# Altium schematic symbol library SEMATIK_LIB.SchLib: 632 symbols (part 8 of 21)
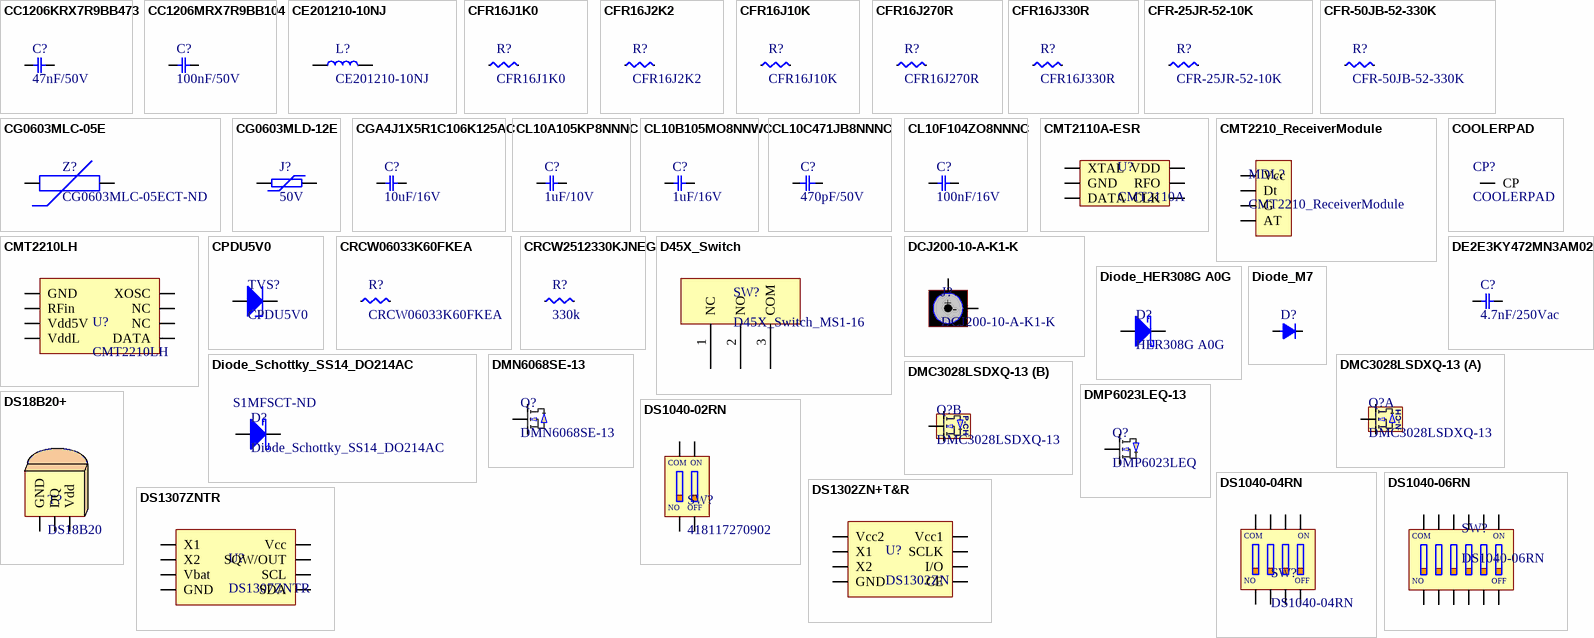
[diagram p23: symbols CC1206KRX7R9BB473 to DS1307ZNTR]

## Diode_HER308G A0G
designator D?, comment HER308G A0G
DIODE GEN PURP 1KV 3A DO201AD; Manufacturer: Taiwan Semiconductor Corporation; Diode Type: Standard; Speed: Fast Recovery =< 500ns, > 200mA (Io); Capacitance @ Vr, F: 35pF @ 4V, 1MHz; Type: Ceramic; Voltage - Max: 24V; Approvals: UL; Supplier 1: Digi-Key; Manufacturer Part Number: HER308G A0G; RoHS: RoHS Compliant; Category: Discrete Semiconductor Products; Stock 1: 2000; Pricing 1: 1=0.6, 10=0.469, 25=0.3952, 100=0.3217, 250=0.2666 (USD); Packaging: Cut Tape (CT); Part Status: Active; Current - Average Rectified (Io): 3A; Mounting Type: Through Hole; Package / Case: DO-201AD, Axial; Supplier Device Package: DO-201AD; Operating Temperature - Junction: -55°C ~ 150°C; ComponentLink1URL: http://www.taiwansemi.com/products/datasheet/HER301G%20SERIES_H15.pdf; ComponentLink1Description: http://www.taiwansemi.com/products/datasheet/HER301G%20SERIES_H15.pdf; Supplier Part Number 1: HER308GA0GCT-ND; Operating Temperature: -20°C ~ 75°C; Ratings: -; Size / Dimension: 0.063" L x 0.032" W (1.60mm x 0.80mm); Height - Seated (Max): -; Thickness (Max): 0.037" (0.95mm); Lead Spacing: -; ComponentLink2URL: https://www.murata.com/~/media/webrenewal/products/thermistor/ptc/prg/bc-e0160j-prg18bbmb1rb-e.ashx?la=en-us; ComponentLink2Description: https://www.murata.com/~/media/webrenewal/products/thermistor/ptc/prg/bc-e0160j-prg18bbmb1rb-e.ashx?la=en-us
pins: 1 Katot, 2 Anot

## Diode_M7
designator D?  (value not drawn)
DIODE GEN PURP 1KV 1A DO214AC; Manufacturer: Comchip Technology; Manufacturer Part Number: CGRA4007-G; Diode Type: Standard; Speed: Standard Recovery >500ns, > 200mA (Io); Supplier 1: Digi-Key; RoHS: RoHS Compliant; Category: Discrete Semiconductor Products; Stock 1: 378932; Pricing 1: 1=0.3, 10=0.27, 25=0.1948, 100=0.1514, 250=0.09516, 500=0.08112, 1000=0.05516, 2500=0.04975 (USD); Packaging: Cut Tape (CT); Part Status: Active; Current - Average Rectified (Io): 1A; Capacitance @ Vr, F: -; Mounting Type: Surface Mount; Package / Case: DO-214AC, SMA; Supplier Device Package: DO-214AC (SMA); Operating Temperature - Junction: -55°C ~ 150°C; Base Part Number: CGRA4007; ComponentLink1URL: http://www.comchiptech.com/cms/UserFiles/CGRA4001-G%20Thru.%20CGRA4007-HF%20RevD.pdf; ComponentLink1Description: http://www.comchiptech.com/cms/UserFiles/CGRA4001-G%20Thru.%20CGRA4007-HF%20RevD.pdf; Supplier Part Number 1: 641-1018-1-ND
footprint DO214AC(SMA)
footprint DO214AC(SMA)+DO41
pins: A Anot, K Katot

## Diode_Schottky_SS14_DO214AC
designator D?  Supplier Part Number 2: S1MFSCT-ND
SS14; Manufacturer: ON Semiconductor / Fairchild; Forward Voltage: 500mV; Peak Non-Repetitive Surge Current: 40A; Element Configuration: Single; Peak Reverse Current: 200uA; Forward Current: 1A; Number of Elements: 1; Max Power Dissipation: 1.1W; Max Repetitive Reverse Voltage (Vrrm): 40V; Polarity: Standard; Reverse Recovery Time: 1.8us; Capacitance: 12pF; Reverse Voltage: 1kV; Recovery Time: 1800ns; Supplier 1: Digi-Key; Manufacturer Part Number: SS14; Stock 1: 148227; Pricing 1: 1=0.43, 10=0.325, 100=0.2027, 500=0.13872, 1000=0.1067 (USD); Mount: Surface Mount; Case/Package: SMA; Number of Pins: 2; Weight: 0.003739oz; Number of Terminals: 2; Min Operating Temperature: -65°C; Max Operating Temperature: 125°C; Packaging: Tape and Reel; Package Quantity: 7500; Max Forward Surge Current (Ifsm): 40A; Average Rectified Current: 1A; Termination: SMD/SMT; Power Dissipation: 1.1W; Voltage Rating (DC): 40V; Current Rating: 1A; Output Current: 1A; Current: 1A; Voltage: 40V; Max Reverse Voltage (DC): 40V; Length: 4.75mm; Height: 2.2mm; Width: 2.95mm; Radiation Hardening: No; REACH SVHC: No SVHC; Lead Free: Lead Free; ComponentLink1URL: http://www.mouser.com/ds/2/149/SS14-197224.pdf?src-supplier=Mouser; ComponentLink1Description: http://www.mouser.com/ds/2/149/SS14-197224.pdf?src-supplier=Mouser; ComponentLink2URL: http://www.jameco.com/Jameco/Products/ProdDS/1089027.pdf?src-supplier=Jameco; ComponentLink2Description: http://www.jameco.com/Jameco/Products/ProdDS/1089027.pdf?src-supplier=Jameco; ComponentLink3URL: https://www.fairchildsemi.com/datasheets/SS/SS19.pdf?src-supplier=Avnet; ComponentLink3Description: https://www.fairchildsemi.com/datasheets/SS/SS19.pdf?src-supplier=Avnet; ComponentLink4URL: https://www.fairchildsemi.com/package-drawings/DO/DO214AC.pdf?src-supplier=Digi-Key; ComponentLink4Description: https://www.fairchildsemi.com/package-drawings/DO/DO214AC.pdf?src-supplier=Digi-Key; ComponentLink5URL: http://www.fairchildsemi.com/ds/SS/SS19.pdf?src-supplier=Avnet+Europe; ComponentLink5Description: http://www.fairchildsemi.com/ds/SS/SS19.pdf?src-supplier=Avnet+Europe; ComponentLink6URL: http://www.farnell.com/datasheets/1880990.pdf?src-supplier=Element14; ComponentLink6Description: http://www.farnell.com/datasheets/1880990.pdf?src-supplier=Element14; ComponentLink7URL: http://www.fairchildsemi.com/ds/SS/SS14.pdf?src-supplier=Future+Electronics; ComponentLink7Description: http://www.fairchildsemi.com/ds/SS/SS14.pdf?src-supplier=Future+Electronics; Supplier Part Number 1: SS14DKR-ND; Supplier 2: Digi-Key; Manufacturer 2: ON Semiconductor / Fairchild; Manufacturer Part Number 2: S1M; Stock 2: 186500; Pricing 2: 1=0,24000, 10=0,19800, 25=0,16560, 100=0,08100, 250=0,07968, 500=0,06752, 1000=0,04692, 2500=0,04361 (USD); RoHS: Yes; Contact Plating: Tin,Matte; Max Surge Current: 40A; ComponentLink8URL: https://datasheet.ciiva.com/27051/1072719-27051364.pdf?src-supplier=Jameco; ComponentLink8Description: https://datasheet.ciiva.com/27051/1072719-27051364.pdf?src-supplier=Jameco; ComponentLink9URL: https://datasheet.ciiva.com/4452/s1m-191340-4452980.pdf?src-supplier=Mouser; ComponentLink9Description: https://datasheet.ciiva.com/4452/s1m-191340-4452980.pdf?src-supplier=Mouser; ComponentLink10URL: https://datasheet.ciiva.com/910/s1a-910496.pdf?src-supplier=Digi-Key; ComponentLink10Description: https://datasheet.ciiva.com/910/s1a-910496.pdf?src-supplier=Digi-Key; ComponentLink11URL: https://datasheet.ciiva.com/8303/s1k-8303577.pdf?src-supplier=Avnet; ComponentLink11Description: https://datasheet.ciiva.com/8303/s1k-8303577.pdf?src-supplier=Avnet; ComponentLink12URL: https://datasheet.ciiva.com/7965/96437-7965306.pdf?src-supplier=Element14; ComponentLink12Description: https://datasheet.ciiva.com/7965/96437-7965306.pdf?src-supplier=Element14; ComponentLink13URL: https://datasheet.ciiva.com/5739/1766308-5739339.pdf?src-supplier=Farnell; ComponentLink13Description: https://datasheet.ciiva.com/5739/1766308-5739339.pdf?src-supplier=Farnell; ComponentLink14URL: https://datasheet.ciiva.com/7965/1766308-7965189.pdf?src-supplier=Element14; ComponentLink14Description: https://datasheet.ciiva.com/7965/1766308-7965189.pdf?src-supplier=Element14; ComponentLink15URL: https://datasheet.ciiva.com/22651/1766308-22651974.pdf?src-supplier=Element14; ComponentLink15Description: https://datasheet.ciiva.com/22651/1766308-22651974.pdf?src-supplier=Element14; ComponentLink16URL: https://datasheet.ciiva.com/7965/1766308-7965307.pdf?src-supplier=Element14; ComponentLink16Description: https://datasheet.ciiva.com/7965/1766308-7965307.pdf?src-supplier=Element14
footprint DO214AC(SMA)
pins: 1 Katot, 2 Anot

## DMC3028LSDXQ-13
designator Q?
MOSFET N/P-CH 30V 5.5A/5.8A 8SO; Manufacturer: Diodes Inc.; Continuous Drain Current (ID): 5.5A; Drain to Source Resistance: 27mΩ; Input Capacitance: 641pF; Max Power Dissipation: 1.2W; Number of Elements: 2; Supplier: Avnet; Supplier Part Number: DMC3028LSDXQ-13; Manufacturer Part Number: DMC3028LSDXQ-13; RoHS: Compliant; Category: MOSFETs; Stock: 52500; Pricing: 2500=0,24402, 5000=0,24278, 10000=0,24153, 15000=0,24029, 20000=0,23904 (USD); Case/Package: SOIC; China RoHS: Compliant; Drain to Source Voltage (Vdss): 30V; Lifecycle Status: Production; Max Operating Temperature: 150°C; Min Breakdown Voltage: 30V; Min Operating Temperature: -55°C; Mounting Technology: Surface Mount; Pins: 8; Number of Terminals: 8; Rds On Max: 27mΩ; REACH SVHC: Yes; ComponentLink1URL: https://datasheet.octopart.com:443/DMC3028LSDXQ-13-Diodes-Inc.-datasheet-151210155.pdf?src-supplier=Future+Electronics; ComponentLink1Description: https://datasheet.octopart.com:443/DMC3028LSDXQ-13-Diodes-Inc.-datasheet-151210155.pdf?src-supplier=Future+Electronics; ComponentLink2URL: https://sigma.octopart.com:443/138895856/technical_drawing/Diodes-Inc.-DMC3028LSDXQ-13.pdf?src-supplier=Diodes+Inc+SCT; ComponentLink2Description: https://sigma.octopart.com:443/138895856/technical_drawing/Diodes-Inc.-DMC3028LSDXQ-13.pdf?src-supplier=Diodes+Inc+SCT
footprint SOP8
part A pins: 1 S1, 2 G1, 7,8 D1
part B pins: 3 S2, 4 G2, 5,6 D2
part A text: N-CH
part B text: P-CH

## DMN6068SE-13
designator Q?
MOSFET N-CH 60V 4.1A SOT223; Manufacturer: Diodes; Number of Elements: 1; Rise Time: 10.8ns; Continuous Drain Current (ID): 5.6A; Gate to Source Voltage (Vgs): 20V; Turn-Off Delay Time: 11.9ns; Turn-On Delay Time: 3.6ns; Fall Time: 8.7ns; Power Dissipation: 3.7W; Element Configuration: Single; Polarity: N-CHANNEL; Rds On Max: 68mR; Input Capacitance: 502pF; Max Power Dissipation: 2W; FET Type: 1 N-Channel; Supplier 1: Digi-Key; Manufacturer Part Number: DMN6068SE-13; RoHS: Yes; Category: MOSFETs; Pricing 1: 1=0,63000, 10=0,53700, 100=0,40130, 500=0,31532, 1000=0,24365, 2000=0,22216 (USD); Mount: Surface Mount; Case/Package: SOT-223; Contact Plating: Tin,Matte; Weight: 0.000282oz; Min Operating Temperature: -55°C; Max Operating Temperature: 150°C; Package Quantity: 4000; Packaging: Cut Tape; Series: -; Drain to Source Voltage (Vdss): 60V; Number of Channels: 1; Drain to Source Breakdown Voltage: 60V; Drain to Source Resistance: 68mR; On-State Resistance: 68mR; Drain-source On Resistance-Max: 68mR; Length: 6.7mm; Width: 3.7mm; Height: 1.65mm; Radiation Hardening: No; Reach SVHC Compliant: Yes; Lead Free: Lead Free; RoHS Compliant: Yes; ComponentLink1URL: https://datasheet.ciiva.com/11176/ds32033-11176546.pdf?src-supplier=Avnet; ComponentLink1Description: https://datasheet.ciiva.com/11176/ds32033-11176546.pdf?src-supplier=Avnet; ComponentLink2URL: https://datasheet.ciiva.com/935/ds32033-935232.pdf?src-supplier=Digi-Key; ComponentLink2Description: https://datasheet.ciiva.com/935/ds32033-935232.pdf?src-supplier=Digi-Key; ComponentLink3URL: https://datasheet.ciiva.com/8115/ds32033-8115611.pdf?src-supplier=Avnet; ComponentLink3Description: https://datasheet.ciiva.com/8115/ds32033-8115611.pdf?src-supplier=Avnet; Supplier Part Number 1: DMN6068SE-13DKR-ND
footprint SOT-223_C
pins: 1 G, 2 D, 3 S

## DMP6023LEQ-13
designator Q?, comment DMP6023LEQ
MOSFET P-CH 60V 7A SOT223 T&R; Manufacturer: Diodes; Manufacturer Part Number: DMP6023LEQ-13; Supplier 1: Digi-Key; RoHS: Yes; Pricing 1: 2500=0,38646 (USD); RoHS Compliant: Yes; Supplier Part Number 1: DMP6023LEQ-13-ND
footprint SOT-223_C
pins: 1 G, 2 D, 3 S

## DS18B20+
designator T?, comment DS18B20
SENSOR DIGITAL -55C-125C TO92-3; Manufacturer: Maxim; Manufacturer Part Number: DS18B20+; Min Supply Voltage: 3V; Max Supply Voltage: 5.5V; Interface: 1-WIRE,Serial; Resolution: 12b; Output Type: Digital,Voltage; Operating Supply Current: 1.5mA; Number of Bits: 12; Nominal Supply Current: 1mA; Output Current: 4mA; Sensor Type: Temperature; Supplier 1: Digi-Key; RoHS: Yes; Category: Integrated Circuits (ICs); Stock 1: 5837; Pricing 1: 1=5,27000, 10=4,73400, 25=4,47520, 100=3,87860, 500=3,30174, 1000=2,93930 (USD); Mount: PCB,Through Hole; Case/Package: TO-92-3; Number of Pins: 3; Weight: 0.001lb; Min Operating Temperature: -55°C; Max Operating Temperature: 125°C; Packaging: Rail/Tube; Package Quantity: 10; Series: DS18B20; Max Supply Voltage (DC): 5.5V; Min Supply Voltage (DC): 3V; Termination: SMD/SMT; Supply Current: 1mA; Length: 4.95mm; Width: 3.94mm; Height: 4.95mm; Radiation Hardening: No; RoHS Compliant: Yes; REACH SVHC: No SVHC; Lead Free: Lead Free; ComponentLink1URL: https://datasheet.ciiva.com/14100/ds18b20-eng-tds-14100018.pdf?src-supplier=Distrelec; ComponentLink1Description: https://datasheet.ciiva.com/14100/ds18b20-eng-tds-14100018.pdf?src-supplier=Distrelec; ComponentLink2URL: https://datasheet.ciiva.com/23809/46379-23809287.pdf?src-supplier=Newark; ComponentLink2Description: https://datasheet.ciiva.com/23809/46379-23809287.pdf?src-supplier=Newark; ComponentLink3URL: https://datasheet.ciiva.com/19456/865936-19456316.pdf?src-supplier=Jameco; ComponentLink3Description: https://datasheet.ciiva.com/19456/865936-19456316.pdf?src-supplier=Jameco; ComponentLink4URL: https://datasheet.ciiva.com/26887/ds18b20-26887123.pdf?src-supplier=IIIC; ComponentLink4Description: https://datasheet.ciiva.com/26887/ds18b20-26887123.pdf?src-supplier=IIIC; ComponentLink5URL: https://datasheet.ciiva.com/16470/ds18b20-16470492.pdf?src-supplier=Avnet+Asia; ComponentLink5Description: https://datasheet.ciiva.com/16470/ds18b20-16470492.pdf?src-supplier=Avnet+Asia; ComponentLink6URL: https://datasheet.ciiva.com/2003/ds18b20-2003437.pdf?src-supplier=Digi-Key; ComponentLink6Description: https://datasheet.ciiva.com/2003/ds18b20-2003437.pdf?src-supplier=Digi-Key; ComponentLink7URL: https://datasheet.ciiva.com/3277/ds18b20-3277869.pdf?src-supplier=Avnet; ComponentLink7Description: https://datasheet.ciiva.com/3277/ds18b20-3277869.pdf?src-supplier=Avnet; ComponentLink8URL: https://datasheet.ciiva.com/5696/ds18s20-5696782.pdf?src-supplier=Farnell; ComponentLink8Description: https://datasheet.ciiva.com/5696/ds18s20-5696782.pdf?src-supplier=Farnell; Supplier Part Number 1: DS18B20+-ND
footprint TO92
pins: 1 GND, 2 DQ, 3 Vdd

## DS1040-02RN
designator SW?, comment 418117270902
SWITCH DIP 2 WAY A QUALITY RED CONNFLY; Manufacturer 1: Wurth Electronics; Description 1: SWITCH SLIDE DIP SPST 25MA 24V; Body Material: Nylon,Polyamide; Mechanical Life: 5000Cycles; Current Rating: 25mA; Number of Positions: 2; Voltage Rating (DC): 24V; Electrical Life: 2000Cycles; Throw Configuration: SPST; Actuator Type: Slide (Standard); Pitch: 0.1inch; Washable: No; Supplier 1: Digi-Key; Manufacturer Part Number 1: 418117270902; Stock 1: 850; Pricing 1: 1=1.17, 10=1.15, 85=1.07306, 170=0.997, 340=0.843, 680=0.767 (USD); Mount: Through Hole; Contact Plating: Gold; Min Operating Temperature: -40°C; Max Operating Temperature: 85°C; Package Quantity: 85; Packaging: Rail/Tube; Termination: PC Pin; Length: 0.239inch; ComponentLink1URL: https://katalog.we-online.de/em/datasheet/418117270901.pdf?src-supplier=Digi-Key; ComponentLink1Description: https://katalog.we-online.de/em/datasheet/418117270901.pdf?src-supplier=Digi-Key; Supplier Part Number 1: 732-3832-5-ND
footprint DIPSWITCH_2PIN
pins: 1 NO1, 2 NO2, 3 COM2, 4 COM1
text: COM; ON; NO; OFF

## DS1040-04RN
designator SW?
SWITCH DIP 4 WAY A QUALITY RED CONNFLY; Manufacturer 1: CTS; Manufacturer Part Number 1: 206-4; Description 1: DIP Switches / SIP Switches SPST 4 switch sections; Body Material: Plastic; Throw Configuration: SPST; Number of Positions: 4; Current Rating: 50mA; Voltage Rating (DC): 24V; Electrical Life: 10000Cycles; Actuator Type: Slide (Standard); Pitch: 0.1inch; Washable: No; Supplier 1: Digi-Key; Stock 1: 2197; Pricing 1: 1=0.78, 10=0.77, 45=0.72556, 90=0.681, 135=0.65141, 270=0.62181, 540=0.56259, 1035=0.51817, 5040=0.42194 (USD); Mount: Through Hole; Contact Plating: Gold,Tin; Contact Material: Copper Alloy; Min Operating Temperature: -55°C; Max Operating Temperature: 85°C; Package Quantity: 45; Packaging: Rail/Tube; Termination: PC Pins; Orientation: Straight; Max Current Rating: 50mA; Max Voltage Rating (DC): 24V; Length: 0.486inch; Terminal Pitch: 2.54mm; Depth: 9.78mm; Radiation Hardening: No; ComponentLink1URL: http://www.ctscorp.com/components/Datasheets/206-208.pdf?src-supplier=Mouser; ComponentLink1Description: http://www.ctscorp.com/components/Datasheets/206-208.pdf?src-supplier=Mouser; ComponentLink2URL: http://www.ctscorp.com/components/Datasheets/206-208.pdf?src-supplier=Future+Electronics; ComponentLink2Description: http://www.ctscorp.com/components/Datasheets/206-208.pdf?src-supplier=Future+Electronics; Supplier Part Number 1: CT2064-ND
footprint DIPSWITCH_4PIN
pins: 1 NO1, 2 NO2, 3 NO3, 4 NO4, 5 COM4, 6 COM3, 7 COM2, 8 COM1
text: COM; ON; NO; OFF

## DS1040-06RN
designator SW?
SWITCH DIP 6 WAY A QUALITY RED CONNFLY; Manufacturer 1: CTS; Manufacturer Part Number 1: 206-6ST; Description 1: SWITCH SLIDE DIP SPST 50MA 24V; Body Material: Plastic; Max Current Rating: 50mA; Throw Configuration: SPST; Voltage Rating (DC): 24V; Number of Positions: 6; Electrical Life: 10000Cycles; Actuator Type: Slide (Standard); Pitch: 0.1inch; Washable: Yes; Supplier 1: Digi-Key; Stock 1: 10900; Pricing 1: 1=1.05, 10=1.029, 30=0.96967, 60=0.9105, 120=0.87083, 270=0.8313, 510=0.75212, 1020=0.69274, 5010=0.56409 (USD); Mount: Through Hole; Contact Material: Copper Alloy; Contact Plating: Gold,Tin; Min Operating Temperature: -55°C; Max Operating Temperature: 85°C; Packaging: Rail/Tube; Package Quantity: 30; Current Rating: 50mA; Termination: PC Pin; Orientation: Straight; Length: 0.686inch; Terminal Pitch: 2.54mm; Depth: 9.78mm; Radiation Hardening: No; Lead Free: Lead Free; ComponentLink1URL: http://www.ctscorp.com/components/Datasheets/206-208.pdf?src-supplier=Future+Electronics; ComponentLink1Description: http://www.ctscorp.com/components/Datasheets/206-208.pdf?src-supplier=Future+Electronics; ComponentLink2URL: https://www.ctscorp.com/wp-content/uploads/206-208.pdf?src-supplier=Digi-Key; ComponentLink2Description: https://www.ctscorp.com/wp-content/uploads/206-208.pdf?src-supplier=Digi-Key; Supplier Part Number 1: CT2066ST-ND
footprint DIPSWITCH_6PIN
pins: 1 NO1, 2 NO2, 3 NO3, 4 NO4, 5 NO5, 6 NO6, 7 COM6, 8 COM5, 9 COM4, 10 COM3, 11 COM2, 12 COM1
text: COM; ON; NO; OFF

## DS1302ZN+T&R
designator U?, comment DS1302ZN
IC RTC CLK/CALENDAR SER 8-SOIC; Manufacturer: Maxim; Manufacturer Part Number: DS1302ZN+T&R; Max Supply Voltage: 5.5V; Min Supply Voltage: 2V; Interface: Serial; Memory Size: 31B; Logic Function: Clock; Time Format: HH:MM:SS; Date Format: YY-MM-DD-dd; Operating Supply Voltage: 3.3V; Supplier 1: Digi-Key; Stock 1: 6129; Pricing 1: 1 = 3,57000, 10 = 3,20500, 25 = 3,02960, 100 = 2,62580, 250 = 2,49112, 500 = 2,23528, 1000 = 1,88517 (USD); RoHS: Yes; Mount: Surface Mount; Case/Package: SOIC; Number of Pins: 8; Contact Plating: Tin,Matte; Min Operating Temperature: -40°C; Max Operating Temperature: 85°C; Package Quantity: 2500; Packaging: Tape and Reel; Length: 5mm; Width: 4mm; Height: 1.5mm; Radiation Hardening: No; REACH SVHC: Unknown; Lead Free: Lead Free; ComponentLink1URL: https://datasheet.ciiva.com/22828/0900766b810e267e-22828037.pdf?src-supplier=RSComponents; ComponentLink1Description: https://datasheet.ciiva.com/22828/0900766b810e267e-22828037.pdf?src-supplier=RSComponents; ComponentLink2URL: https://datasheet.ciiva.com/18633/ds1302-18633111.pdf?src-supplier=Digi-Key; ComponentLink2Description: https://datasheet.ciiva.com/18633/ds1302-18633111.pdf?src-supplier=Digi-Key; ComponentLink3URL: https://datasheet.ciiva.com/18633/ds1302-18633112.pdf?src-supplier=Digi-Key; ComponentLink3Description: https://datasheet.ciiva.com/18633/ds1302-18633112.pdf?src-supplier=Digi-Key; ComponentLink4URL: https://datasheet.ciiva.com/18633/ds1302-18633113.pdf?src-supplier=Digi-Key; ComponentLink4Description: https://datasheet.ciiva.com/18633/ds1302-18633113.pdf?src-supplier=Digi-Key; ComponentLink5URL: https://datasheet.ciiva.com/4772/ds1302-16025-4772348.pdf?src-supplier=Mouser; ComponentLink5Description: https://datasheet.ciiva.com/4772/ds1302-16025-4772348.pdf?src-supplier=Mouser; ComponentLink6URL: https://datasheet.ciiva.com/17307/ds1302-17307068.pdf?src-supplier=Avnet+Europe; ComponentLink6Description: https://datasheet.ciiva.com/17307/ds1302-17307068.pdf?src-supplier=Avnet+Europe; ComponentLink7URL: https://datasheet.ciiva.com/3304/ds1302-3304446.pdf?src-supplier=Avnet; ComponentLink7Description: https://datasheet.ciiva.com/3304/ds1302-3304446.pdf?src-supplier=Avnet; ComponentLink8URL: https://datasheet.ciiva.com/1243/ds1302-1243263.pdf?src-supplier=Digi-Key; ComponentLink8Description: https://datasheet.ciiva.com/1243/ds1302-1243263.pdf?src-supplier=Digi-Key; Supplier Part Number 1: DS1302ZN+T&RCT-ND
footprint SOP8
pins: 1 Vcc2, 2 X1, 3 X2, 4 GND, 5 CE, 6 I/O, 7 SCLK, 8 Vcc1

## DS1307ZNTR
designator U?
IC RTC CLK/CALENDAR I2C 8-SOIC; Manufacturer: Maxim; Max Supply Voltage: 5.5V; Min Supply Voltage: 4.5V; Interface: I2C,Serial,2-Wire; Memory Size: 56B; Logic Function: Clock; Voltage: 7V; Time Format: HH:MM:SS; Date Format: YY-MM-DD-dd; Operating Supply Voltage: 5V; Supplier 1: Digi-Key; Manufacturer Part Number: DS1307ZNTR; Stock 1: 0; RoHS: Yes; Mount: Surface Mount; Case/Package: SOIC; Number of Pins: 8; Weight: 0.019048oz; Contact Plating: Tin,Matte; Min Operating Temperature: -40°C; Max Operating Temperature: 85°C; Packaging: Tape and Reel; Package Quantity: 2500; Radiation Hardening: No; Lead Free: Lead Free; REACH SVHC: Unknown; ComponentLink1URL: https://datasheet.ciiva.com/1243/ds1307-1243264.pdf?src-supplier=Digi-Key; ComponentLink1Description: https://datasheet.ciiva.com/1243/ds1307-1243264.pdf?src-supplier=Digi-Key; ComponentLink2URL: https://datasheet.ciiva.com/28652/1647366-28652551.pdf?src-supplier=Element14; ComponentLink2Description: https://datasheet.ciiva.com/28652/1647366-28652551.pdf?src-supplier=Element14; ComponentLink3URL: https://datasheet.ciiva.com/18633/ds1307-18633131.pdf?src-supplier=Digi-Key; ComponentLink3Description: https://datasheet.ciiva.com/18633/ds1307-18633131.pdf?src-supplier=Digi-Key; ComponentLink4URL: https://datasheet.ciiva.com/3304/ds1307-3304460.pdf?src-supplier=Avnet; ComponentLink4Description: https://datasheet.ciiva.com/3304/ds1307-3304460.pdf?src-supplier=Avnet; ComponentLink5URL: https://datasheet.ciiva.com/18633/ds1307-18633132.pdf?src-supplier=Digi-Key; ComponentLink5Description: https://datasheet.ciiva.com/18633/ds1307-18633132.pdf?src-supplier=Digi-Key; Supplier Part Number 1: DS1307ZN+T&RTR-ND
footprint SOP8
pins: 1 X1, 2 X2, 3 Vbat, 4 GND, 5 SDA, 6 SCL, 7 SQW/OUT, 8 Vcc

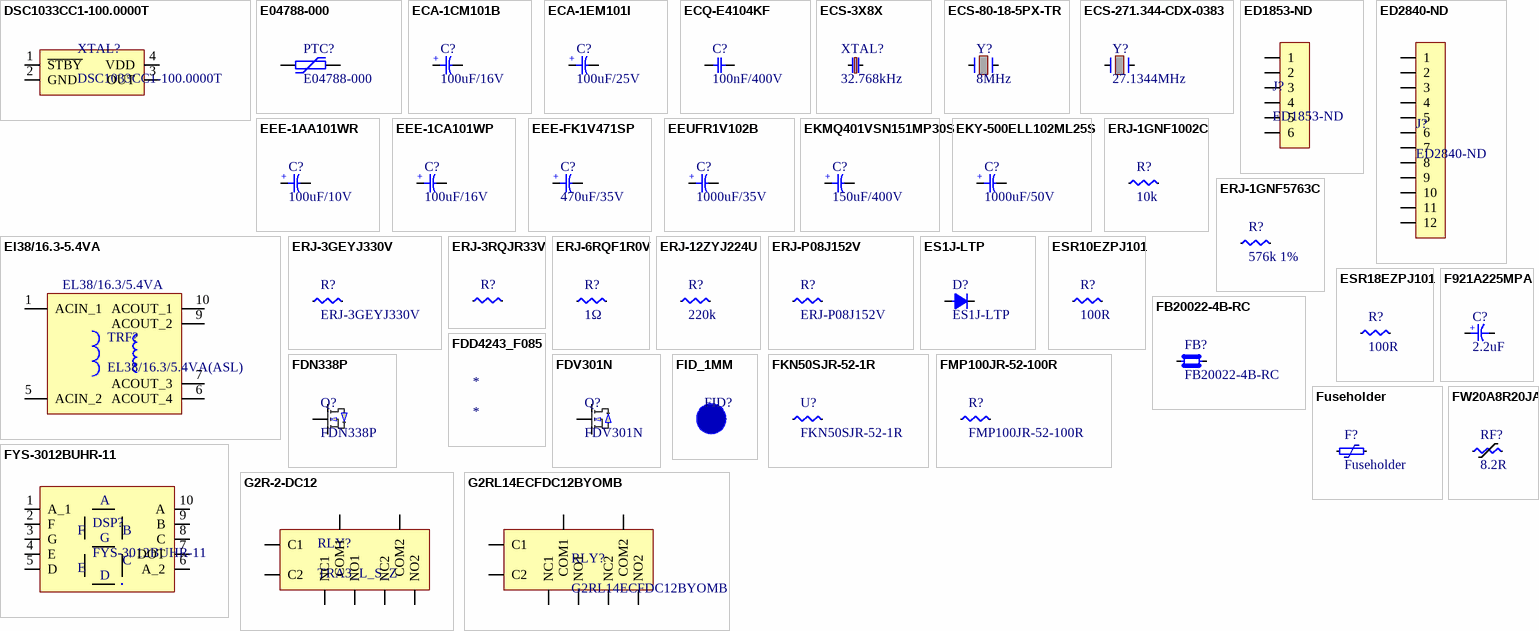
[diagram p6: symbols DSC1033CC1-100.0000T to G2RL14ECFDC12BYOMB]

## DSC1033CC1-100.0000T
designator XTAL?
OSC MEMS XO 100.0000MHZ CMOS SMD; Manufacturer: Microchip; Supplier 1: Digi-Key; Manufacturer Part Number: DSC1033CC1-100.0000T; Stock 1: 0; RoHS: Yes; ComponentLink1URL: http://www.microchip.com/mymicrochip/filehandler.aspx?ddocname=en576719&src-supplier=Digi-Key; ComponentLink1Description: http://www.microchip.com/mymicrochip/filehandler.aspx?ddocname=en576719&src-supplier=Digi-Key; Supplier Part Number 1: DSC1033CC1-100.0000T-ND
footprint DSC1033CC1_4smd
pins: 1 ~{STBY}, 2 GND, 3 OUT, 4 VDD

## E04788-000
designator PTC?
PTC Resettable Fuse 240V 160mA Ih Through Hole Radial, Disc; Manufacturer: Littelfuse; Trip Current: 370mA; Time to Trip: 15s; Max Current Rating: 2A; Supplier 1: Digi-Key; Manufacturer Part Number: E04788-000; RoHS: Yes; Category: PTC Resettable Fuses; Stock 1: 6776; Pricing 1: 1=0,77000, 5=0,75000, 10=0,72800, 50=0,61220, 100=0,50820, 250=0,46200, 500=0,39270, 1000=0,34650 (USD); Mount: Through Hole; Case/Package: Radial; Hold Current: 160mA; Packaging: Tape and Reel; Width: 0.15inch; Height - Seated (Max): 0.5inch; Lead Pitch: 0.2inch; ComponentLink1URL: http://www.te.com/commerce/DocumentDelivery/DDEController?Action=srchrtrv&DocNm=SCD24905&DocType=SS&DocLang=EN&src-supplier=Digi-Key; ComponentLink1Description: http://www.te.com/commerce/DocumentDelivery/DDEController?Action=srchrtrv&DocNm=SCD24905&DocType=SS&DocLang=EN&src-supplier=Digi-Key; Supplier Part Number 1: LVR016S-2CT-ND
footprint 10D201K_Varistor
pins: 1, 2

## ECA-1CM101B
designator C?, comment 100uF/16V
CAP ALUM uF 100 16V 20%  RADIAL; Manufacturer 1: Panasonic; Manufacturer Part Number 1: ECA-1CM101B; Description 1: Cap Aluminum Lytic 100uF 16V 20% (5 X 11mm) Radial 5mm 180mA 2000h 85C Ammo Pack; Capacitance: 100uF; Ripple Current: 180mA; Life (Hours): 2000Hour; Leakage Current: 3mA; Dissipation Factor: 0.2%; Lead/Base Style: Straight; Lead Diameter: 0.5mm; Supplier 1: Digi-Key; Stock 1: 5680; Pricing 1: 1=0.24, 10=0.167, 100=0.0844, 500=0.05772, 1000=0.05106 (USD); Mount: Through Hole,PCB; Case/Package: Radial; Min Operating Temperature: -40°C; Max Operating Temperature: 85°C; Voltage Rating: 16V; Tolerance: 20%; Packaging: Ammo Pack; Package Quantity: 2000; Voltage Rating (DC): 16V; Termination: Radial; Voltage: 16V; Diameter: 5mm; Length: 11mm; Height: 11mm; Lead Pitch: 5mm; Width: 0inch; Height - Seated (Max): 0.472inch; Radiation Hardening: No; REACH SVHC: Unknown; Lead Free: Lead Free; ComponentLink1URL: http://www.industrial.panasonic.com/www-data/pdf/ABA0000/ABA0000CE12.pdf?src-supplier=Element14; ComponentLink1Description: http://www.industrial.panasonic.com/www-data/pdf/ABA0000/ABA0000CE12.pdf?src-supplier=Element14; ComponentLink2URL: https://www.alliedelec.com/m/d/cdc9c4252075ab41ba4d5225fe070f0c.pdf?src-supplier=Allied+Electronics; ComponentLink2Description: https://www.alliedelec.com/m/d/cdc9c4252075ab41ba4d5225fe070f0c.pdf?src-supplier=Allied+Electronics; ComponentLink3URL: http://industrial.panasonic.com/www-data/pdf/ABA0000/ABA0000CE12.pdf?src-supplier=Avnet+Europe; ComponentLink3Description: http://industrial.panasonic.com/www-data/pdf/ABA0000/ABA0000CE12.pdf?src-supplier=Avnet+Europe; Supplier Part Number 1: P10369CT-ND
footprint Cap_Alu_6.3x11x2.5mm
pins: 1, 2
text: +

## ECA-1EM101I
designator C?, comment 100uF/25V
CAP ALUM uF 100 25V 20% RADIAL; Manufacturer 1: Panasonic; Manufacturer Part Number 1: ECA-1EM101I; Description 1: Cap Aluminum Lytic 100uF 25V 20% (6.3 X 11.2mm) Radial 2.5mm 180mA 2000h 85C Ammo Pack; Capacitance: 100uF; Ripple Current: 180mA; Polarity: Polar; Life (Hours): 2000Hour; Leakage Current: 3mA; Dissipation Factor: 0.16%; Lead/Base Style: Straight; Lead Diameter: 0.5mm; Supplier 1: Digi-Key; Stock 1: 18000; Pricing 1: 2000=0.0534, 4000=0.0494, 10000=0.04673, 14000=0.04432, 50000=0.04005, 100000=0.03631 (USD); Mount: Through Hole,PCB; Case/Package: Radial; Contact Plating: Tin; Min Operating Temperature: -40°C; Max Operating Temperature: 85°C; Tolerance: 20%; Voltage Rating (DC): 25V; Voltage Rating: 25V; Packaging: Tape and Reel; Package Quantity: 2000; Termination: Radial; Voltage: 25V; Diameter: 6.3mm; Length: 11.2mm; Height: 11.2mm; Lead Pitch: 2.5mm; Height - Seated (Max): 0.48inch; Radiation Hardening: No; REACH SVHC: Unknown; Lead Free: Lead Free; ComponentLink1URL: http://industrial.panasonic.com/www-data/pdf/ABA0000/ABA0000CE12.pdf?src-supplier=Avnet; ComponentLink1Description: http://industrial.panasonic.com/www-data/pdf/ABA0000/ABA0000CE12.pdf?src-supplier=Avnet; ComponentLink2URL: https://www.verical.com/server-webapp/html/getDatasheet?partID=239702&src-supplier=Verical; ComponentLink2Description: https://www.verical.com/server-webapp/html/getDatasheet?partID=239702&src-supplier=Verical; ComponentLink3URL: http://www.farnell.com/datasheets/1907780.pdf?src-supplier=Element14; ComponentLink3Description: http://www.farnell.com/datasheets/1907780.pdf?src-supplier=Element14; ComponentLink4URL: http://www.onlinecomponents.com/productFiles/mf-PSC/aba0000ce12.pdf?src-supplier=Onlinecomponents.com; ComponentLink4Description: http://www.onlinecomponents.com/productFiles/mf-PSC/aba0000ce12.pdf?src-supplier=Onlinecomponents.com; ComponentLink5URL: http://www.mouser.com/ds/2/315/ABA0000CE12-465472.pdf?src-supplier=Mouser; ComponentLink5Description: http://www.mouser.com/ds/2/315/ABA0000CE12-465472.pdf?src-supplier=Mouser; Supplier Part Number 1: P10413TB-ND
footprint Cap_Alu_6.3x11x2.5mm
pins: 1, 2
text: +

## ECQ-E4104KF
designator C?, comment 100nF/400V
CAP FILM nF 100 400VDC 10% RADIAL; Manufacturer 1: Panasonic; Manufacturer Part Number 1: ECQ-E4104KF; Description 1: CAP FILM 0.1UF 10% 400VDC RADIAL; Dielectric Material: Polyester; Capacitance: 100nF; Voltage Rating (DC): 400V; Dielectric: PET; Lead/Base Style: Straight; Lead Diameter: 0.6mm; Lead Length: 20mm; Supplier 1: Digi-Key; Stock 1: 259833; Pricing 1: 1=0.35, 10=0.243, 100=0.1458, 500=0.10936, 1000=0.09234, 2500=0.08748, 5000=0.08262 (USD); Mount: Through Hole; Case/Package: Radial; Contact Plating: Tin; Min Operating Temperature: -40°C; Max Operating Temperature: 105°C; Packaging: Bulk; Tolerance: 10%; Package Quantity: 100; Voltage Rating: 400V; Termination: Radial; Length: 12mm; Height: 12mm; Lead Pitch: 10mm; Width: 6.3mm; Height - Seated (Max): 0.512inch; Depth: 6.3mm; Radiation Hardening: No; REACH SVHC: Unknown; Lead Free: Lead Free; ComponentLink1URL: http://industrial.panasonic.com/www-data/pdf/ABD0000/ABD0000CE23.pdf?src-supplier=Avnet+Europe; ComponentLink1Description: http://industrial.panasonic.com/www-data/pdf/ABD0000/ABD0000CE23.pdf?src-supplier=Avnet+Europe; ComponentLink2URL: http://www.farnell.com/datasheets/2371515.pdf?src-supplier=Farnell; ComponentLink2Description: http://www.farnell.com/datasheets/2371515.pdf?src-supplier=Farnell; ComponentLink3URL: http://www.farnell.com/datasheets/1790617.pdf?src-supplier=Element14; ComponentLink3Description: http://www.farnell.com/datasheets/1790617.pdf?src-supplier=Element14; ComponentLink4URL: http://industrial.panasonic.com/www-data/pdf/ABD0000/ABD0000CE23.pdf?src-supplier=Future+Electronics; ComponentLink4Description: http://industrial.panasonic.com/www-data/pdf/ABD0000/ABD0000CE23.pdf?src-supplier=Future+Electronics; Supplier Part Number 1: EF4104-ND
footprint Cap_3925
pins: 1, 2

## ECS-3X8X
designator XTAL?, comment 32.768kHz
CRYSTAL 32.7680KHZ 12.5PF T/H; Manufacturer: ECS International; Manufacturer Part Number: ECS-3X8X; Tolerance: 20ppm; ESR (Equivalent Series Resistance): 35kR; Supplier 1: Digi-Key; Stock 1: 7563; Pricing 1: 1 = 0,270000, 10 = 0,224000, 50 = 0,202000, 100 = 0,179500, 500 = 0,170560, 1000 = 0,143630, 2500 = 0,134660, 5000 = 0,130170, 10000 = 0,125680 (USD); RoHS: Yes; Mount: Through Hole; Case/Package: Radial; Min Operating Temperature: -10°C; Max Operating Temperature: 60°C; Termination: Radial; Package Quantity: 1000; Packaging: Bulk; Frequency: 32.768kHz; Frequency Tolerance: 20ppm; Load Capacitance: 12.5pF; Diameter: 3.1mm; Length: 0.323inch; Height: 0.323inch; Lead Free: Lead Free; ComponentLink1URL: https://datasheet.ciiva.com/852/ecs-3x8x2x6x1x5x-852748.pdf?src-supplier=Digi-Key; ComponentLink1Description: https://datasheet.ciiva.com/852/ecs-3x8x2x6x1x5x-852748.pdf?src-supplier=Digi-Key; Supplier Part Number 1: X1123-ND
footprint CRYSTAL_CYLINDER
pins: 1, 2

## ECS-80-18-5PX-TR
designator Y?, comment 8MHz
CRYSTAL 8MHz ±30ppm (Tol) ±50ppm (Stability) 18pF FUND 60Ohm 2-Pin HC-49/USX SMD T/R; Manufacturer: ECS International; Manufacturer Part Number: ECS-80-18-5PX-TR; ESR (Equivalent Series Resistance): 60R; Supplier 1: Digi-Key; Stock 1: 24559; Pricing 1: 1 = 0,50000, 10 = 0,41300, 50 = 0,37120, 100 = 0,33000, 500 = 0,31350 (USD); RoHS: Yes; Mount: Surface Mount; Min Operating Temperature: -10°C; Max Operating Temperature: 70°C; Package Quantity: 1000; Frequency: 8MHz; Load Capacitance: 18pF; Packaging: Tape and Reel; Tolerance: 30ppm; Frequency Tolerance: 30ppm; Frequency Stability: 50ppm; Termination: SMD/SMT; Length: 0.449inch; Height: 0.169inch; Width: 4.8mm; Lead Free: Lead Free; ComponentLink1URL: https://datasheet.ciiva.com/852/csm-7x-852380.pdf?src-supplier=Digi-Key; ComponentLink1Description: https://datasheet.ciiva.com/852/csm-7x-852380.pdf?src-supplier=Digi-Key; ComponentLink2URL: https://datasheet.ciiva.com/852/csm-7x-852381.pdf?src-supplier=Digi-Key; ComponentLink2Description: https://datasheet.ciiva.com/852/csm-7x-852381.pdf?src-supplier=Digi-Key; ComponentLink3URL: https://datasheet.ciiva.com/852/csm-7x-852382.pdf?src-supplier=Digi-Key; ComponentLink3Description: https://datasheet.ciiva.com/852/csm-7x-852382.pdf?src-supplier=Digi-Key; Supplier Part Number 1: XC1271CT-ND
footprint CRYSTAL_SMD_DIP
pins: 1, 2

## ECS-271.344-CDX-0383
designator Y?, comment 27.1344MHz
CRYSTAL 27.1344MHZ 12PF SMD; Manufacturer: ECS International; Manufacturer Part Number: ECS-271.344-CDX-0383; Frequency Stability: 30ppm; Frequency Tolerance: 20ppm; ESR (Equivalent Series Resistance): 30R; Supplier 1: Digi-Key; Stock 1: 2; Pricing 1: 1 = 1,46000, 10 = 1,39800, 50 = 1,36500, 100 = 1,17000, 500 = 1,13750, 1000 = 0,95875, 2500 = 0,91000, 5000 = 0,87750, 10000 = 0,84500 (USD); RoHS: Yes; Mount: Surface Mount; Min Operating Temperature: -10°C; Max Operating Temperature: 70°C; Package Quantity: 1; Frequency: 27.1344MHz; Load Capacitance: 12pF; Packaging: Bulk; Length: 0.449inch; Height: 0.169inch; Width: 0.189inch; Lead Free: Lead Free; ComponentLink1URL: https://datasheet.ciiva.com/860/ecs-cdx-0370-386-860035.pdf?src-supplier=Digi-Key; ComponentLink1Description: https://datasheet.ciiva.com/860/ecs-cdx-0370-386-860035.pdf?src-supplier=Digi-Key; Supplier Part Number 1: XC1367-ND
footprint CRYSTAL_SMD_DIP
pins: 1, 2

## ED1853-ND
designator J?
TERM BLOCK HDR 6POS VERT 5.08MM; Manufacturer: On Shore Technology Inc.; Manufacturer Part Number: EDSTLZ955/6; Number of Positions: 6; Number of Levels: 1; Pitch: 0.200" (5.08mm); Header Orientation: Vertical; Contact Tail Length: 0.154" (3.90mm); Supplier 1: Digi-Key; RoHS: RoHS Compliant; Category: Connectors, Interconnects; Stock 1: 3941; Pricing 1: 1=1.69, 10=1.282, 25=1.188, 50=1.068, 100=1.042, 250=0.91176, 500=0.8336, 1000=0.75545, 5000=0.66428 (USD); Packaging: Bulk; Part Status: Active; Type: Header, Male Pins, Shrouded (4 Side); Positions Per Level: 6; Plug Wire Entry: -; Termination Style: -; Mounting Type: Solder; Current - IEC: -; Wire Gauge or Range - AWG: -; Wire Gauge or Range - mm²: -; Color: -; Operating Temperature: -30°C ~ 105°C; Contact Mating Finish: -; Features: -; Material Flammability Rating: -; Ingress Protection: -; Screw Size: -; Torque - Screw: -; Wire Strip Length: -; Contact Material: -; Housing Material: Polyamide (PA), Nylon; Insulation Height: 0.154" (3.90mm); ComponentLink1URL: http://www.on-shore.com/wp-content/uploads/2015/09/edstl955.pdf; ComponentLink1Description: http://www.on-shore.com/wp-content/uploads/2015/09/edstl955.pdf; Supplier Part Number 1: ED1853-ND
footprint SOCKET_5.08_1X6_180_CLOSE
pins: 1, 2, 3, 4, 5, 6

## ED2840-ND
designator J?
TERM BLOCK HDR 12POS VERT 5.08MM; Manufacturer: On Shore Technology Inc.; Manufacturer Part Number: OSTOQ125450; Number of Positions: 12; Number of Levels: 1; Pitch: 0.200" (5.08mm); Header Orientation: Vertical; Contact Tail Length: 0.157" (4.00mm); Supplier 1: Digi-Key; RoHS: RoHS Compliant; Category: Connectors, Interconnects; Stock 1: 1483; Pricing 1: 1=1.66, 10=1.169, 25=1.0908, 50=0.9898, 100=0.9855, 250=0.8322, 500=0.7884, 1000=0.7008, 5000=0.5694 (USD); Packaging: Bulk; Part Status: Active; Type: Header, Male Pins, Shrouded (4 Side); Positions Per Level: 12; Plug Wire Entry: -; Termination Style: -; Mounting Type: Solder; Current - IEC: -; Wire Gauge or Range - AWG: -; Wire Gauge or Range - mm²: -; Color: -; Operating Temperature: -30°C ~ 105°C; Contact Mating Finish: Tin; Features: -; Material Flammability Rating: -; Ingress Protection: -; Screw Size: -; Torque - Screw: -; Wire Strip Length: -; Contact Material: -; Housing Material: Brass; Insulation Height: 0.157" (4.00mm); ComponentLink1URL: http://www.on-shore.com/wp-content/uploads/2015/09/ostoqxx5450.pdf; ComponentLink1Description: http://www.on-shore.com/wp-content/uploads/2015/09/ostoqxx5450.pdf; Supplier Part Number 1: ED2840-ND
footprint SOCKET_5.08_1X12_180_CLOSE
pins: 1, 2, 3, 4, 5, 6, 7, 8, 9, 10, 11, 12

## EEE-1AA101WR
designator C?, comment 100uF/10V
CAP ALUM uF 100 10V 20% SMD; Manufacturer: Panasonic Electronic Components; Manufacturer Part Number: EEE-1AA101WR; Lifetime @ Temp.: 1000 Hrs @ 85°C; Polarization: Polar; Ripple Current - Low Frequency: 50mA @ 120Hz; Ripple Current - High Frequency: 85mA @ 10kHz; Surface Mount Land Size: 0.209" L x 0.209" W (5.30mm x 5.30mm); Max Collector Current: 3A; Transition Frequency: 3MHz; Collector Emitter Breakdown Voltage: 100V; Polarity: NPN; Emitter Base Voltage (VEBO): 6V; Collector Emitter Saturation Voltage: 1.2V; Number of Elements: 1; Power Dissipation: 1.5W; Max Power Dissipation: 1.56W; Element Configuration: Single; hFE Min: 25; Supplier 1: Digi-Key; RoHS: RoHS Compliant; Category: Capacitors; Stock 1: 117847; Pricing 1: 1=0.31, 10=0.212, 100=0.1272, 500=0.09538 (USD); Packaging: Cut Tape (CT); Part Status: Active; Tolerance: ±20%; ESR (Equivalent Series Resistance): -; Operating Temperature: -40°C ~ 85°C; Applications: General Purpose; Lead Spacing: -; Size / Dimension: 0.197" Dia (5.00mm); Height - Seated (Max): 0.213" (5.40mm); Mounting Type: Surface Mount; Package / Case: Radial, Can - SMD; ComponentLink1URL: https://industrial.panasonic.com/cdbs/www-data/pdf/RDE0000/ABA0000C1145.pdf; ComponentLink1Description: https://industrial.panasonic.com/cdbs/www-data/pdf/RDE0000/ABA0000C1145.pdf; Supplier Part Number 1: PCE3867CT-ND; Supplier 2: Digi-Key; Stock 2: 14695; Pricing 2: 1 = 0,47000, 10 = 0,40100, 25 = 0,37400, 100 = 0,27790, 500 = 0,21700, 1000 = 0,17639 (USD); Mount: Surface Mount; Case/Package: DPAK; Number of Pins: 3; Weight: 0.012346oz; Min Operating Temperature: -55°C; Max Operating Temperature: 150°C; Max Breakdown Voltage: 100V; Collector Base Voltage (VCBO): 100V; Continuous Collector Current: 3A; Package Quantity: 2500; Collector Emitter Voltage (VCEO): 100V; Frequency: 3MHz; Gain Bandwidth Product: 3MHz; Max Frequency: 3MHz; Length: 6.8mm; Width: 6.2mm; Height: 2.4mm; Radiation Hardening: No; REACH SVHC: No SVHC; Lead Free: Lead Free; ComponentLink2URL: https://datasheet.ciiva.com/6360/ds31625-6360177.pdf?src-supplier=Digi-Key; ComponentLink2Description: https://datasheet.ciiva.com/6360/ds31625-6360177.pdf?src-supplier=Digi-Key; ComponentLink3URL: https://datasheet.ciiva.com/16462/ds31625-16462219.pdf?src-supplier=Future+Electronics; ComponentLink3Description: https://datasheet.ciiva.com/16462/ds31625-16462219.pdf?src-supplier=Future+Electronics; ComponentLink4URL: https://datasheet.ciiva.com/16285/ds31625-16285775.pdf?src-supplier=Mouser; ComponentLink4Description: https://datasheet.ciiva.com/16285/ds31625-16285775.pdf?src-supplier=Mouser
footprint C_ALU_C_SIZE
pins: 1, 2
text: +

## EEE-1CA101WP
designator C?, comment 100uF/16V
CAP ALUM uF 100 16V 20% SMD; Manufacturer: Panasonic; Manufacturer Part Number: EEE-1CA101WP; Capacitance: 100uF; Ripple Current: 70mA; Life (Hours): 1000Hour; Leakage Current: 3uA; Supplier 1: Digi-Key; Stock 1: 45000; Pricing 1: 1000 = 0,09386, 2000 = 0,08892, 5000 = 0,08398, 10000 = 0,07904, 25000 = 0,07410, 50000 = 0,06916, 100000 = 0,06718 (USD); RoHS: Yes; Mount: Surface Mount,PCB; Case/Package: Radial; Contact Plating: Tin; Min Operating Temperature: -40°C; Max Operating Temperature: 85°C; Tolerance: 20%; Voltage Rating: 16V; Voltage Rating (DC): 16V; Packaging: Tape and Reel; Package Quantity: 1000; Ripple Current (AC): 70mA; Termination: SMD/SMT; Voltage: 16V; Diameter: 6.3mm; Length: 5.5mm; Height: 5.4mm; Height - Seated (Max): 0.213inch; Radiation Hardening: No; Lead Free: Lead Free; REACH SVHC: Unknown; ComponentLink1URL: https://datasheet.ciiva.com/36525/1355583-36525976.pdf?src-supplier=Jameco; ComponentLink1Description: https://datasheet.ciiva.com/36525/1355583-36525976.pdf?src-supplier=Jameco; ComponentLink2URL: https://datasheet.ciiva.com/2983/aba0000ce2-2983909.pdf?src-supplier=Avnet; ComponentLink2Description: https://datasheet.ciiva.com/2983/aba0000ce2-2983909.pdf?src-supplier=Avnet; ComponentLink3URL: https://datasheet.ciiva.com/24022/aba0000ce2-40801-24022853.pdf?src-supplier=Mouser; ComponentLink3Description: https://datasheet.ciiva.com/24022/aba0000ce2-40801-24022853.pdf?src-supplier=Mouser; ComponentLink4URL: https://datasheet.ciiva.com/30194/11aba0000ce2-30194491.pdf?src-supplier=Onlinecomponents.com; ComponentLink4Description: https://datasheet.ciiva.com/30194/11aba0000ce2-30194491.pdf?src-supplier=Onlinecomponents.com; ComponentLink5URL: https://datasheet.ciiva.com/14600/70255710-14600124.pdf?src-supplier=Allied+Electronics; ComponentLink5Description: https://datasheet.ciiva.com/14600/70255710-14600124.pdf?src-supplier=Allied+Electronics; ComponentLink6URL: https://datasheet.ciiva.com/17353/aba0000ce2-17353308.pdf?src-supplier=Avnet+Europe; ComponentLink6Description: https://datasheet.ciiva.com/17353/aba0000ce2-17353308.pdf?src-supplier=Avnet+Europe; ComponentLink7URL: https://datasheet.ciiva.com/11680/aba0000ce2-11680765.pdf?src-supplier=Avnet; ComponentLink7Description: https://datasheet.ciiva.com/11680/aba0000ce2-11680765.pdf?src-supplier=Avnet; Supplier Part Number 1: PCE3880TR-ND
footprint CAP_ALU_SMD_6.6x6.6
pins: 1, 2
text: +

## EEE-FK1V471SP
designator C?, comment 470uF/35V
CAP ALUM uF 470 35V %20 RADIAL; Manufacturer: Panasonic; Manufacturer Part Number: EEE-FK1V471SP; Capacitance: 470uF; ESR (Equivalent Series Resistance): 80mR; Polarity: Polar; Ripple Current: 552.5mA; Life (Hours): 2000Hour; Ripple Current (AC): 850mA; Tolerance: 20%; Leakage Current: 3uA; Voltage: 25V; Dissipation Factor: 0.14%; Supplier 1: Digi-Key; Stock 1: 22077; Mount: Surface Mount; Case/Package: Radial; Min Operating Temperature: -55°C; Max Operating Temperature: 105°C; Package Quantity: 500; Packaging: Cut Tape; Voltage Rating: 35V; Voltage Rating (DC): 35V; Diameter: 10mm; Height: 10.2mm; Height - Seated (Max): 0.413inch; REACH SVHC: Unknown; Supplier Part Number 1: P18963CT-ND; Supplier 2: Digi-Key; Stock 2: 47500; Pricing 2: 500 = 0,32592, 1000 = 0,28066, 2500 = 0,26255, 5000 = 0,24897, 12500 = 0,24626 (USD); RoHS: Yes; Impedance: 80mR; Termination: SMD/SMT; Features: General Purpose; Length: 10mm; Radiation Hardening: No; ComponentLink1URL: https://datasheet.ciiva.com/11776/0900766b80ebdadd-11776792.pdf?src-supplier=RSComponents; ComponentLink1Description: https://datasheet.ciiva.com/11776/0900766b80ebdadd-11776792.pdf?src-supplier=RSComponents; ComponentLink2URL: https://datasheet.ciiva.com/15028/e-cd-15028224.pdf?src-supplier=Digi-Key; ComponentLink2Description: https://datasheet.ciiva.com/15028/e-cd-15028224.pdf?src-supplier=Digi-Key; ComponentLink3URL: https://datasheet.ciiva.com/30521/getdatasheetpartid-512790-30521913.pdf?src-supplier=Verical; ComponentLink3Description: https://datasheet.ciiva.com/30521/getdatasheetpartid-512790-30521913.pdf?src-supplier=Verical; ComponentLink4URL: https://datasheet.ciiva.com/5361/e-cd-22158-5361574.pdf?src-supplier=Mouser; ComponentLink4Description: https://datasheet.ciiva.com/5361/e-cd-22158-5361574.pdf?src-supplier=Mouser; ComponentLink5URL: https://datasheet.ciiva.com/11684/e-cd-11684246.pdf?src-supplier=Avnet; ComponentLink5Description: https://datasheet.ciiva.com/11684/e-cd-11684246.pdf?src-supplier=Avnet; ComponentLink6URL: https://datasheet.ciiva.com/17354/e-cd-17354599.pdf?src-supplier=Avnet+Europe; ComponentLink6Description: https://datasheet.ciiva.com/17354/e-cd-17354599.pdf?src-supplier=Avnet+Europe; ComponentLink7URL: https://datasheet.ciiva.com/16513/e-cd-16513818.pdf?src-supplier=Future+Electronics; ComponentLink7Description: https://datasheet.ciiva.com/16513/e-cd-16513818.pdf?src-supplier=Future+Electronics; ComponentLink8URL: https://datasheet.ciiva.com/15028/e-cd-15028223.pdf?src-supplier=Digi-Key; ComponentLink8Description: https://datasheet.ciiva.com/15028/e-cd-15028223.pdf?src-supplier=Digi-Key; Supplier Part Number 2: 493-6386-2-ND
footprint Cap_Alu_G_Size_10x10.2mm
pins: 1, 2
text: +

## EEUFR1V102B
designator C?, comment 1000uF/35V
CAP ALUM uF 1000 35V 20% RADIAL; Manufacturer: Panasonic; Manufacturer Part Number: EEUFR1V102B; Capacitance: 1mF; Ripple Current: 2.6A; Impedance: 18mR; Life (Hours): 10000Hour; Lead Diameter: 0.6mm; Supplier 1: Digi-Key; Stock 1: 11720; Pricing 1: 1=1.03, 10=0.81, 100=0.6075 (USD); Mount: PCB,Through Hole; Case/Package: Radial; Number of Pins: 2; Min Operating Temperature: -40°C; Max Operating Temperature: 105°C; Tolerance: 20%; Voltage Rating: 35V; Packaging: Tape and Reel; Package Quantity: 500; Voltage Rating (DC): 35V; ESR (Equivalent Series Resistance): 18mR; Termination: Radial; Features: General Purpose; Diameter: 12.5mm; Length: 20mm; Height: 20mm; Lead Pitch: 5mm; Height - Seated (Max): 0.866inch; Radiation Hardening: No; REACH SVHC: No SVHC; Lead Free: Lead Free; ComponentLink1URL: https://www.alliedelec.com/m/d/c64d79662f3315ec05811b9c7d24cbaa.pdf?src-supplier=Allied+Electronics; ComponentLink1Description: https://www.alliedelec.com/m/d/c64d79662f3315ec05811b9c7d24cbaa.pdf?src-supplier=Allied+Electronics; ComponentLink2URL: http://www.farnell.com/datasheets/1725490.pdf?src-supplier=Element14; ComponentLink2Description: http://www.farnell.com/datasheets/1725490.pdf?src-supplier=Element14; ComponentLink3URL: http://farnell.com//datasheets/1897635.pdf?src-supplier=Farnell; ComponentLink3Description: http://farnell.com//datasheets/1897635.pdf?src-supplier=Farnell; ComponentLink4URL: http://industrial.panasonic.com/www-data/pdf/ABA0000/ABA0000CE132.pdf?src-supplier=Avnet; ComponentLink4Description: http://industrial.panasonic.com/www-data/pdf/ABA0000/ABA0000CE132.pdf?src-supplier=Avnet; ComponentLink5URL: http://www.farnell.com/datasheets/1897635.pdf?src-supplier=Element14; ComponentLink5Description: http://www.farnell.com/datasheets/1897635.pdf?src-supplier=Element14; ComponentLink6URL: http://industrial.panasonic.com/www-data/pdf/ABA0000/ABA0000CE132.pdf?src-supplier=Avnet+Europe; ComponentLink6Description: http://industrial.panasonic.com/www-data/pdf/ABA0000/ABA0000CE132.pdf?src-supplier=Avnet+Europe; Supplier Part Number 1: P15382CT-ND
footprint Cap_Alu_5x12.5x20mm
pins: 1, 2
text: +

## EKMQ401VSN151MP30S
designator C?, comment 150uF/400V
CAP ALUM uF 150 400V 20% SNAP; Manufacturer 1: United Chemi-Con; Manufacturer Part Number 1: EKMQ401VSN151MP30S; Capacitance: 150uF; Ripple Current: 880mA; Test Frequency: 120Hz; Dissipation Factor: 0.15%; Life (Hours): 2000Hour; Lead Diameter: 2mm; Supplier 1: Digi-Key; Stock 1: 2800; Pricing 1: 1=4,67000, 10=3,76600, 50=3,23900, 100=2,93770, 500=2,18442, 1000=2,03378, 2500=1,96500 (USD); RoHS: Yes; Mount: Through Hole; Case/Package: Radial; Number of Pins: 2; Min Operating Temperature: -25°C; Max Operating Temperature: 105°C; Tolerance: 20%; Voltage Rating: 400V; Voltage Rating (DC): 400V; Package Quantity: 200; Packaging: Bulk; Termination: Snap in; Voltage: 400V; Features: General Purpose; Series: KMQ-LU; Diameter: 22mm; Length: 30mm; Lead Pitch: 10mm; Height - Seated (Max): 1.181inch; Lead Free: Lead Free; RoHS Compliant: Yes; ComponentLink1URL: https://datasheet.ciiva.com/100/kmqseries-100395.pdf?src-supplier=Digi-Key; ComponentLink1Description: https://datasheet.ciiva.com/100/kmqseries-100395.pdf?src-supplier=Digi-Key; Supplier Part Number 1: 565-2998-ND
footprint Cap_Alu_(10mm)_(22x35.5)
footprint Cap_Alu_(10mm)_(26x36)
pins: 1, 2
text: +

## EKY-500ELL102ML25S
designator C?, comment 1000uF/50V
CAP ALUM uF 1000 50V 20% RADIAL; Manufacturer: United Chemi-Con; Manufacturer Part Number: EKY-500ELL102ML25S; Life (Hours): 10000Hour; Leakage Current: 500uA; ESR (Equivalent Series Resistance): 25mR; Capacitance: 1mF; Ripple Current: 2.555A; Lead Diameter: 0.8mm; Supplier 1: Digi-Key; Stock 1: 5262; Pricing 1: 1 = 1,24000, 10 = 0,97800, 50 = 0,84760, 100 = 0,73350, 500 = 0,55420, 1000 = 0,48900, 2500 = 0,45640, 5000 = 0,44010 (USD); RoHS: Yes; Mount: Through Hole; Case/Package: Radial; Number of Pins: 25; Min Operating Temperature: -40°C; Max Operating Temperature: 105°C; Packaging: Bulk; Termination: Radial; Package Quantity: 500; Voltage Rating: 50V; Voltage Rating (DC): 50V; Voltage: 50V; Tolerance: 20%; Impedance: 25mR; Diameter: 16mm; Length: 25mm; Lead Pitch: 7.5mm; Height - Seated (Max): 0.984inch; Lead Free: Lead Free; ComponentLink1URL: https://datasheet.ciiva.com/15946/al-ky-e-120701-15946808.pdf?src-supplier=Onlinecomponents.com; ComponentLink1Description: https://datasheet.ciiva.com/15946/al-ky-e-120701-15946808.pdf?src-supplier=Onlinecomponents.com; Supplier Part Number 1: 565-1617-ND
footprint Cap_Alu_7.5mm_16x31.5mm
pins: 1, 2
text: +

## El38/16.3-5.4VA
designator TRF?, comment EL38/16.3/5.4VA(ASL)
TRANSFORMER 5.4VA 2x12 EL38/16.3/5.4VA(ASL)
footprint El38/16.3-5.4VA
pins: 1 ACIN_1, 5 ACIN_2, 6 ACOUT_4, 7 ACOUT_3, 9 ACOUT_2, 10 ACOUT_1
text: EL38/16.3/5.4VA

## ERJ-1GNF1002C
designator R?, comment 10k
RES SMD 10K OHM 1% 1/20W 0201; Manufacturer: Panasonic; Manufacturer Part Number: ERJ-1GNF1002C; Resistance: 10kR; Power Rating: 50mW; Voltage Rating: 25V; Temperature Coefficient: 200ppm/°C; Supplier 1: Digi-Key; Stock 1: 400188; Pricing 1: 1 = 0,10000, 10 = 0,05100, 100 = 0,02080, 1000 = 0,00933, 2500 = 0,00810, 5000 = 0,00669 (USD); RoHS: Yes; Mount: Surface Mount; Case/Package: 0201; Number of Pins: 2; Case Code (Metric): 0603; Case Code (Imperial): 0201; Contact Plating: Tin,Matte; Min Operating Temperature: -55°C; Max Operating Temperature: 125°C; Packaging: Tape and Reel; Tolerance: 1%; Package Quantity: 15000; Composition: Thick Film; Number of Terminations: 2; Military Standard: Not; Max Power Dissipation: 50mW; Voltage Rating (DC): 25V; Length: 0.6mm; Height: 0.01inch; Width: 0.012inch; Depth: 0.3mm; Radiation Hardening: No; REACH SVHC: Unknown; Lead Free: Lead Free; ComponentLink1URL: https://datasheet.ciiva.com/28514/1678782-28514085.pdf?src-supplier=Element14; ComponentLink1Description: https://datasheet.ciiva.com/28514/1678782-28514085.pdf?src-supplier=Element14; ComponentLink2URL: https://datasheet.ciiva.com/43467/1678782-43467078.pdf?src-supplier=Farnell; ComponentLink2Description: https://datasheet.ciiva.com/43467/1678782-43467078.pdf?src-supplier=Farnell; ComponentLink3URL: https://datasheet.ciiva.com/16508/aoa0000ce2-16508478.pdf?src-supplier=Future+Electronics; ComponentLink3Description: https://datasheet.ciiva.com/16508/aoa0000ce2-16508478.pdf?src-supplier=Future+Electronics; ComponentLink4URL: https://datasheet.ciiva.com/28514/1678782-28514095.pdf?src-supplier=Element14; ComponentLink4Description: https://datasheet.ciiva.com/28514/1678782-28514095.pdf?src-supplier=Element14; Supplier Part Number 1: P122414DKR-ND
footprint R_0201_NOSILK
pins: 1, 2